# Altium integrated library TPS563200DDCR.IntLib: 1 symbol
Pins are listed as number, name and electrical type; pins without a type are passive.

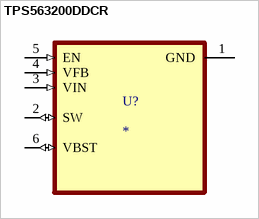
[diagram p0: symbol TPS563200DDCR]

## TPS563200DDCR
designator U?
17 V Input, 3A Synchronous Step-Down Regulator in SOT-23 with Advanced Eco-modeâ„¢; MF: Texas Instruments; MP: TPS563200DDCR; SnapEDA_Link: https://www.snapeda.com/parts/TPS563200DDCR/Texas+Instruments/view-part/?ref=snap; Package: SOT-23-THN-6 Texas Instruments; Value: *; Check_prices: https://www.snapeda.com/parts/TPS563200DDCR/Texas+Instruments/view-part/?ref=eda
footprint SOT95P280X110-6N
pins: 1 GND (power), 2 SW (io), 3 VIN (in), 4 VFB (in), 5 EN (in), 6 VBST (io)